# EAGLE library part DWM100 (library decawave)
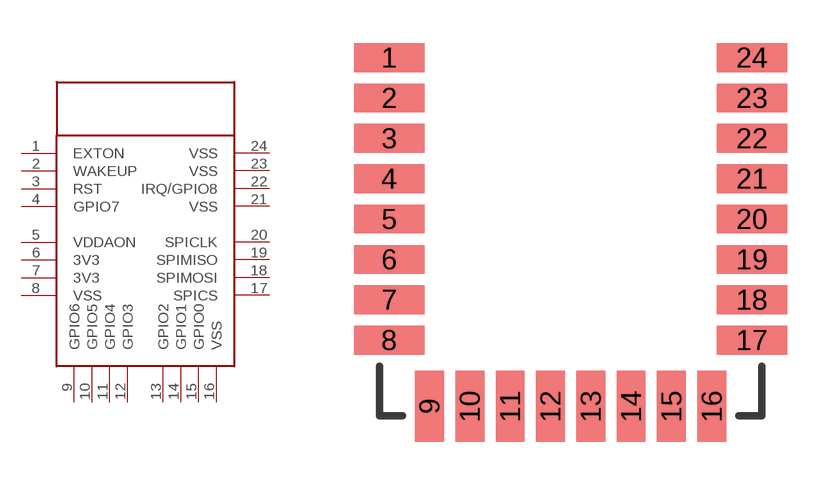
[diagram p0: symbol with the pads of DWM100_MOD; footprint DWM100_MOD]

Designator prefix -

## DWM100 (MPN: DWM1000)  [DWM100_MOD]
1  EXTON
2  WAKEUP
3  RST
4  GPIO7
5  VDDAON
6  3V3
7  3V3
8  VSS
9  GPIO6
10  GPIO5
11  GPIO4
12  GPIO3
13  GPIO2
14  GPIO1
15  GPIO0
16  VSS
17  SPICS
18  SPIMOSI
19  SPIMISO
20  SPICLK
21  VSS
22  IRQ/GPIO8
23  VSS
24  VSS

## Footprint DWM100_MOD (pad centres in mm)
smd 2.45 x 1: 1 -6.295,0.8; 2 -6.295,-0.6; 3 -6.295,-2; 4 -6.295,-3.4; 5 -6.295,-4.8; 6 -6.295,-6.2; 7 -6.295,-7.6; 8 -6.295,-9; 17 6.295,-9; 18 6.295,-7.6; 19 6.295,-6.2; 20 6.295,-4.8; 21 6.295,-3.4; 22 6.295,-2; 23 6.295,-0.6; 24 6.295,0.8
smd 1 x 2.45: 9 -4.9,-11.295; 10 -3.5,-11.295; 11 -2.1,-11.295; 12 -0.7,-11.295; 13 0.7,-11.295; 14 2.1,-11.295; 15 3.5,-11.295; 16 4.9,-11.295